# EAGLE library part TDA1519* (library Audio-Power-amlifier V.2.0)
22WBTL or 2 ´ 11Wstereo power amplifier
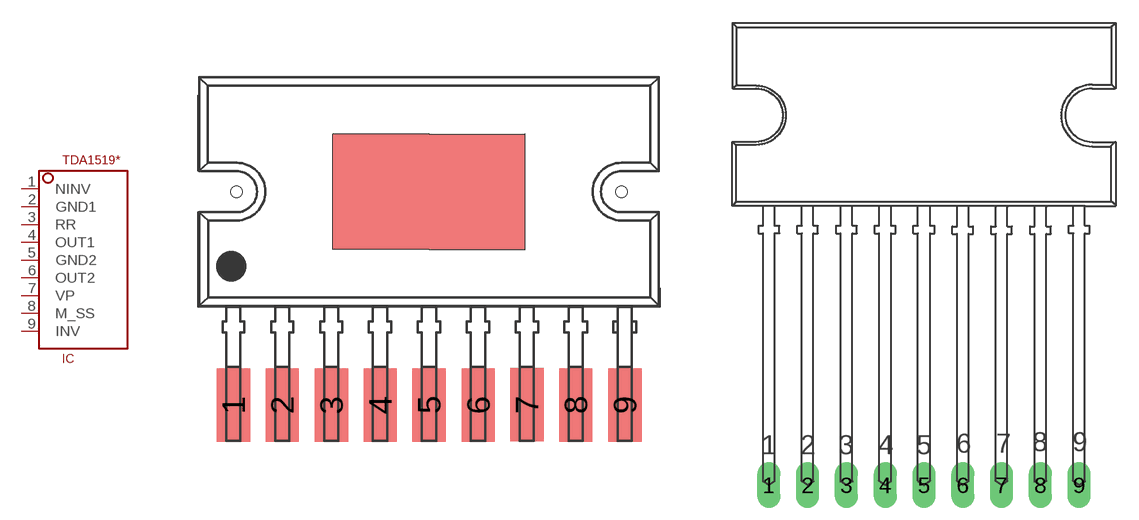
[diagram p53: symbol with the pads of SOT354-1; footprints SOT354-1, SOT131-2H]

Designator prefix IC

## TDA1519TDA1519CSP  [SOT354-1]
1  NINV
2  GND1  pwr
3  RR
4  OUT1  out
5  GND2  pwr
6  OUT2  out
7  VP  pwr
8  M_SS
9  INV

## TDA1519TDA1519C  [SOT131-2H]
Pads as for SOT354-1

## TDA1519TDA1519  [SOT110-1]
Pads as for SOT354-1

## TDA1519TDA1519A  [SOT157-2]
Pads as for SOT354-1

## Footprint SOT354-1 (pad centres in mm)
smd 1.73 x 3.81: 1 -10.15,-5.1; 2 -7.62,-5.09; 3 -5.07,-5.1; 4 -2.53,-5.09; 5 0,-5.09; 6 2.56,-5.09; 7 5.08,-5.08; 8 7.62,-5.09; 9 10.17,-5.09
hole 0.6 at -10,6
hole 0.6 at 10,6

## Footprint SOT131-2H (pad centres in mm)
drill 1 long: 1 -10.16,0; 2 -7.62,0; 3 -5.08,0; 4 -2.54,0; 5 0,0; 6 2.54,0; 7 5.08,0; 8 7.62,0; 9 10.16,0

## Footprint SOT110-1 (pad centres in mm)
SIL9MPF: plastic single in-line medium power package with fin; 9 leads
drill 0.8 long: 1 -10.16,0; 2 -7.62,0; 3 -5.08,0; 4 -2.54,0; 5 0,0; 6 2.54,0; 7 5.08,0; 8 7.62,0; 9 10.16,0

## Footprint SOT157-2 (pad centres in mm)
drill 1 long: 1 -10.16,0; 2 -7.62,-2.54; 3 -5.08,0; 4 -2.54,-2.54; 5 0,0; 6 2.54,-2.54; 7 5.08,0; 8 7.62,-2.54; 9 10.16,0